# Altium schematic symbol library SIM CARD.SchLib: 1 symbol
Pins are listed as number, name and electrical type; pins without a type are passive.

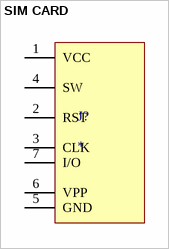
[diagram p0: symbol SIM CARD]

## SIM CARD
designator J?
pins: 1 VCC, 2 RST, 3 CLK, 4 SW, 5 GND, 6 VPP, 7 I/O